# Altium footprint library Resistor.PcbLib: 20 footprints (part 1 of 2)
Each footprint in its own frame and in the unit in brackets; x right, y up, seen from the top. Pads: shape width x height; smd on the part's side, far side on the other; paste and mask are expansions set on the pad; w line width, h text height; cw(c..) or ccw(c..) is an arc to the next point about the centre after c.
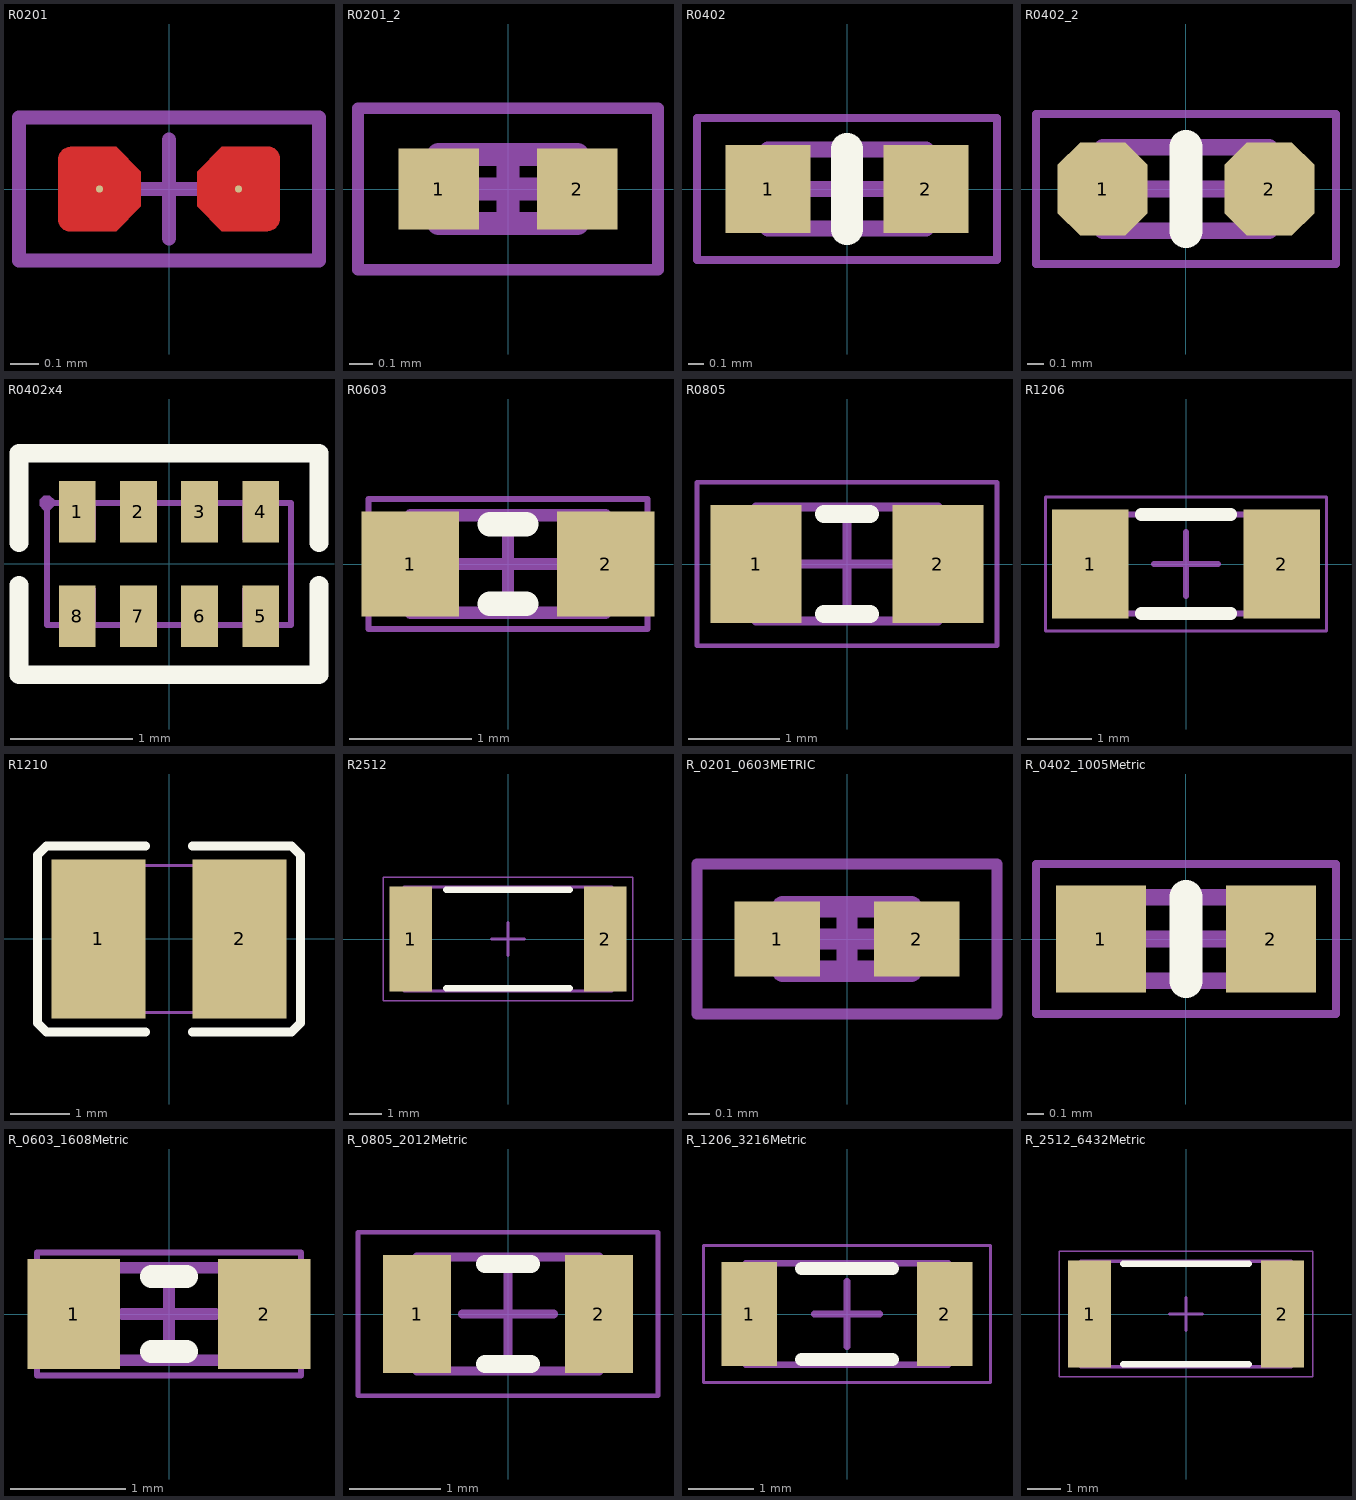
[diagram p0: the footprints below, top view; thin cyan lines are the x and y axes]

## R0201 [mil] "Chip Resistor, 2-Leads, Body 0.60x0.30mm, IPC Medium Density"
height 9.06
pads (2):
  round 1 smd paste-19.68 mask+0: 1(-9.73,0)
  round 1 smd paste+0 mask+0: 2(9.73,0)
Top Layer:
  region: 9.85,-5.91 13.85,-5.91 14.2,-5.86 14.81,-5.53 15.27,-5.01 15.52,-4.35 15.52,-4 15.52,4.5 15.47,4.8 15.17,5.32 14.71,5.7 14.15,5.91 13.85,5.91 9.85,5.91 7.4,5.91 3.94,2.45 3.94,-2.45 7.4,-5.91
  region: -9.85,5.91 -13.85,5.91 -14.2,5.86 -14.81,5.53 -15.27,5.01 -15.52,4.35 -15.52,4 -15.52,-4.5 -15.47,-4.8 -15.17,-5.32 -14.71,-5.7 -14.15,-5.91 -13.85,-5.91 -9.85,-5.91 -7.4,-5.91 -3.94,-2.45 -3.94,2.45 -7.4,5.91
Top Paste:
  region: -9.85,5.91 -13.85,5.91 -14.2,5.86 -14.81,5.53 -15.27,5.01 -15.52,4.35 -15.52,4 -15.52,-4.5 -15.47,-4.8 -15.17,-5.32 -14.71,-5.7 -14.15,-5.91 -13.85,-5.91 -9.85,-5.91 -7.4,-5.91 -3.94,-2.45 -3.94,2.45 -7.4,5.91
  region: 9.85,-5.91 13.85,-5.91 14.2,-5.86 14.81,-5.53 15.27,-5.01 15.52,-4.35 15.52,-4 15.52,4.5 15.47,4.8 15.17,5.32 14.71,5.7 14.15,5.91 13.85,5.91 9.85,5.91 7.4,5.91 3.94,2.45 3.94,-2.45 7.4,-5.91
  region: 9.85,-5.91 13.85,-5.91 14.2,-5.86 14.81,-5.53 15.27,-5.01 15.52,-4.35 15.52,-4 15.52,4.5 15.47,4.8 15.17,5.32 14.71,5.7 14.15,5.91 13.85,5.91 9.85,5.91 7.4,5.91 3.94,2.45 3.94,-2.45 7.4,-5.91
  region: -9.85,5.91 -13.85,5.91 -14.2,5.86 -14.81,5.53 -15.27,5.01 -15.52,4.35 -15.52,4 -15.52,-4.5 -15.47,-4.8 -15.17,-5.32 -14.71,-5.7 -14.15,-5.91 -13.85,-5.91 -9.85,-5.91 -7.4,-5.91 -3.94,-2.45 -3.94,2.45 -7.4,5.91
Top Solder:
  region: -9.85,5.91 -13.85,5.91 -14.2,5.86 -14.81,5.53 -15.27,5.01 -15.52,4.35 -15.52,4 -15.52,-4.5 -15.47,-4.8 -15.17,-5.32 -14.71,-5.7 -14.15,-5.91 -13.85,-5.91 -9.85,-5.91 -7.4,-5.91 -3.94,-2.45 -3.94,2.45 -7.4,5.91
  region: -9.85,5.91 -13.85,5.91 -14.2,5.86 -14.81,5.53 -15.27,5.01 -15.52,4.35 -15.52,4 -15.52,-4.5 -15.47,-4.8 -15.17,-5.32 -14.71,-5.7 -14.15,-5.91 -13.85,-5.91 -9.85,-5.91 -7.4,-5.91 -3.94,-2.45 -3.94,2.45 -7.4,5.91
  region: 9.85,-5.91 13.85,-5.91 14.2,-5.86 14.81,-5.53 15.27,-5.01 15.52,-4.35 15.52,-4 15.52,4.5 15.47,4.8 15.17,5.32 14.71,5.7 14.15,5.91 13.85,5.91 9.85,5.91 7.4,5.91 3.94,2.45 3.94,-2.45 7.4,-5.91
  region: 9.85,-5.91 13.85,-5.91 14.2,-5.86 14.81,-5.53 15.27,-5.01 15.52,-4.35 15.52,-4 15.52,4.5 15.47,4.8 15.17,5.32 14.71,5.7 14.15,5.91 13.85,5.91 9.85,5.91 7.4,5.91 3.94,2.45 3.94,-2.45 7.4,-5.91
Mechanical 15:
  lines w1.97: -21,-10 -21,10 21,10 21,-10 -21,-10
  lines w2: -6.89,0 6.89,0 ; 0,-6.89 0,6.89
3D body "RESC0603X02N.step": height 9.06, standoff 0, extent -11.81,-5.91 11.81,5.91

## R0201_2 [mm] "Chip Resistor, 2-Leads, Body 0.60x0.30mm, IPC Medium Density"
height 0.23
pads (2):
  rect 0.35x0.35 smd: 1(-0.3,0) 2(0.3,0)
Mechanical 13:
  lines w0.1: -0.3,-0.15 0.3,-0.15 0.3,0.15 -0.3,0.15 -0.3,-0.15
Mechanical 15:
  lines w0.05: -0.65,-0.35 0.65,-0.35 0.65,0.35 -0.65,0.35 -0.65,-0.35
  lines w0.1: -0.15,0 0.15,0 ; 0,-0.15 0,0.15
3D body "RESC0603X02N.step": height 0.23, standoff 0, extent -0.3,-0.15 0.3,0.15

## R0402 [mm] "Chip Resistor, 2-Leads, Body 1.00x0.50mm, IPC Medium Density"
height 0.5
pads (2):
  rect 0.54x0.56 smd: 1(-0.5,0) 2(0.5,0)
Top Overlay:
  lines w0.2: 0,-0.254 0,0.254
Mechanical 13:
  lines w0.1: -0.5,-0.25 0.5,-0.25 0.5,0.25 -0.5,0.25 -0.5,-0.25
Mechanical 15:
  lines w0.05: -0.95,-0.45 0.95,-0.45 0.95,0.45 -0.95,0.45 -0.95,-0.45
  lines w0.1: -0.25,0 0.25,0 ; 0,-0.25 0,0.25
3D body: height 0.33, standoff 0, extent 0.3,-0.25 0.5,0.25
3D body: height 0.33, standoff 0, extent -0.5,-0.25 -0.3,0.25
3D body: height 0.32, standoff 0, extent -0.3,-0.25 0.3,0.25

## R0402_2 [mm] "Chip Resistor, 2-Leads, Body 1.00x0.50mm, IPC Medium Density"
height 0.5
pads (2):
  oct 0.54x0.56 smd mask+0.051: 1(-0.5,0) 2(0.5,0)
Top Overlay:
  lines w0.2: 0,-0.254 0,0.254
Mechanical 13:
  lines w0.1: -0.5,-0.25 -0.5,0.25 0.5,0.25 0.5,-0.25 -0.5,-0.25
Mechanical 15:
  lines w0.05: -0.9,-0.45 -0.9,0.45 0.9,0.45 0.9,-0.45 -0.9,-0.45
  lines w0.1: -0.25,0 0.25,0 ; 0,-0.25 0,0.25
3D body: height 0.32, standoff 0, extent -0.3,-0.25 0.3,0.25
3D body: height 0.33, standoff 0, extent -0.5,-0.25 -0.3,0.25
3D body: height 0.33, standoff 0, extent 0.3,-0.25 0.5,0.25

## R0402x4 [mm] "Chip Array, ConvexS, 8-Leads, Pitch 0.50mm,  Body 2.00x1.00mm,  IPC High Density"
height 0.35
pads (8):
  rect 0.3x0.505 smd: 1(-0.75,0.427) 2(-0.25,0.427) 3(0.25,0.427) 4(0.75,0.427) 5(0.75,-0.427) 6(0.25,-0.427) 7(-0.25,-0.427) 8(-0.75,-0.427)
Top Overlay:
  lines w0.152: -1.229,-0.175 -1.229,-0.909 1.229,-0.909 1.229,-0.175 ; -1.229,0.175 -1.229,0.909 1.229,0.909 1.229,0.175
Mechanical 15:
  region: -0.94,0.5 -0.94,0.525 -0.975,0.56 -1.025,0.56 -1.06,0.525 -1.06,0.5 -1.06,0.475 -1.025,0.44 -0.975,0.44 -0.94,0.475 -0.94,0.5
  region: -0.9,0.5 -0.9,0.2 -0.6,0.2 -0.6,0.5
  region: -0.4,0.5 -0.4,0.2 -0.1,0.2 -0.1,0.5
  region: 0.1,0.5 0.1,0.2 0.4,0.2 0.4,0.5
  region: 0.6,0.5 0.6,0.2 0.9,0.2 0.9,0.5
  region: -0.9,-0.5 -0.9,-0.2 -0.6,-0.2 -0.6,-0.5
  region: -0.4,-0.5 -0.4,-0.2 -0.1,-0.2 -0.1,-0.5
  region: 0.1,-0.5 0.1,-0.2 0.4,-0.2 0.4,-0.5
  region: 0.6,-0.5 0.6,-0.2 0.9,-0.2 0.9,-0.5
  lines w0.051: -1,-0.5 -1,0.5 1,0.5 1,-0.5 -1,-0.5
3D body "CAC-50P200X100-8L.step": height 0.35, standoff 0, extent -1,-0.55 1,0.55

## R0603 [mm] "Chip Resistor, 2-Leads, Body 1.60x0.80mm, IPC Medium Density"
height 0.45
pads (2):
  rect 0.8x0.86 smd: 1(-0.8,0) 2(0.8,0)
Top Overlay:
  lines w0.2: -0.15,-0.325 0.15,-0.325 ; -0.15,0.325 0.15,0.325
Mechanical 13:
  lines w0.1: -0.8,-0.4 -0.8,0.4 0.8,0.4 0.8,-0.4 -0.8,-0.4
Mechanical 15:
  lines w0.05: -1.143,-0.533 -1.143,0.533 1.143,0.533 1.143,-0.533 -1.143,-0.533
  lines w0.1: -0.4,0 0.4,0 ; 0,-0.4 0,0.4
3D body: height 0.45, standoff 0, extent -0.55,-0.4 0.55,0.4
3D body: height 0.45, standoff 0, extent -0.8,-0.4 -0.55,0.4
3D body: height 0.45, standoff 0, extent 0.55,-0.4 0.8,0.4

## R0805 [mm] "Chip Resistor, 2-Leads, Body 2.00x1.25mm, IPC Medium Density"
height 0.5
pads (2):
  rect 1x1.3 smd: 1(-1,0) 2(1,0)
Top Overlay:
  lines w0.2: -0.25,-0.55 0.25,-0.55 ; -0.25,0.55 0.25,0.55
Mechanical 13:
  lines w0.1: -1,-0.625 -1,0.625 1,0.625 1,-0.625 -1,-0.625
Mechanical 15:
  lines w0.05: -1.65,-0.9 -1.65,0.9 1.65,0.9 1.65,-0.9 -1.65,-0.9
  lines w0.1: -0.5,0 0.5,0 ; 0,-0.5 0,0.5
3D body "RESC2012X05N.step": height 0.5, standoff 0, extent -1,-0.625 1,0.625

## R1206 [mm] "Chip Resistor, 2-Leads, Body 3.10x1.55mm, IPC Medium Density"
height 0.55
pads (2):
  rect 1.2x1.7 smd: 1(-1.5,0) 2(1.5,0)
Top Overlay:
  lines w0.2: -0.7,-0.775 0.7,-0.775 ; -0.7,0.775 0.7,0.775
Mechanical 13:
  lines w0.1: -1.55,-0.775 -1.55,0.775 1.55,0.775 1.55,-0.775 -1.55,-0.775
Mechanical 15:
  lines w0.05: -2.2,-1.05 -2.2,1.05 2.2,1.05 2.2,-1.05 -2.2,-1.05
  lines w0.1: -0.5,0 0.5,0 ; 0,-0.5 0,0.5
3D body "RESC3116X06N.step": height 0.55, standoff 0, extent -1.55,-0.775 1.55,0.775

## R1210 [mm]
pads (2):
  rect 1.6x2.7 smd: 1(-1.2,0) 2(1.2,0)
Top Overlay:
  lines w0.152: -0.4,-1.579 -2.086,-1.579 -2.239,-1.426 -2.239,1.426 -2.086,1.579 -0.4,1.579 ; 0.4,-1.579 2.086,-1.579 2.239,-1.426 2.239,1.426 2.086,1.579 0.4,1.579
Mechanical 15:
  region: 0.5,1.25 1.6,1.25 1.6,-1.25 0.5,-1.25
  region: -1.6,1.25 -0.5,1.25 -0.5,-1.25 -1.6,-1.25
  region: -1.54,-1.25 -1.54,-1.225 -1.575,-1.19 -1.625,-1.19 -1.66,-1.225 -1.66,-1.25 -1.66,-1.275 -1.625,-1.31 -1.575,-1.31 -1.54,-1.275 -1.54,-1.25
  lines w0.051: -1.6,-1.25 -1.6,1.25 1.6,1.25 1.6,-1.25 -1.6,-1.25
3D body "2.step": height 0.55, standoff 0, extent -1.55,-1.3 1.55,1.301

## R2512 [mm] "Chip Resistor, 2-Leads, Body 6.40x3.20mm, IPC Medium Density"
height 0.6
pads (2):
  rect 1.3x3.25 smd: 1(-3,0) 2(3,0)
Top Overlay:
  lines w0.2: -1.9,-1.525 1.9,-1.525 ; -1.9,1.525 1.9,1.525
Mechanical 13:
  lines w0.1: -3.2,-1.6 3.2,-1.6 3.2,1.6 -3.2,1.6 -3.2,-1.6
Mechanical 15:
  lines w0.05: -3.85,-1.9 3.85,-1.9 3.85,1.9 -3.85,1.9 -3.85,-1.9
  lines w0.1: -0.5,0 0.5,0 ; 0,-0.5 0,0.5
3D body "RESC6432X06N.step": height 0.6, standoff 0, extent -3.2,-1.6 3.2,1.6

## R_0201_0603METRIC [mm] "Chip Resistor, 2-Leads, Body 0.60x0.30mm, IPC Medium Density"
height 0.23
pads (2):
  rect 0.4x0.35 smd: 1(-0.325,0) 2(0.325,0)
Mechanical 13:
  lines w0.1: -0.3,-0.15 -0.3,0.15 0.3,0.15 0.3,-0.15 -0.3,-0.15
Mechanical 15:
  lines w0.05: -0.7,-0.35 -0.7,0.35 0.7,0.35 0.7,-0.35 -0.7,-0.35
  lines w0.1: -0.15,0 0.15,0 ; 0,-0.15 0,0.15
3D body "RESC0603X02N.step": height 0.23, standoff 0, extent -0.3,-0.15 0.3,0.15

## R_0402_1005Metric [mm] "Chip Resistor, 2-Leads, Body 1.00x0.50mm, IPC Medium Density"
height 0.5
pads (2):
  rect 0.54x0.64 smd: 1(-0.51,0) 2(0.51,0)
Top Overlay:
  lines w0.2: 0,-0.254 0,0.254
Mechanical 13:
  lines w0.1: -0.5,-0.25 0.5,-0.25 0.5,0.25 -0.5,0.25 -0.5,-0.25
Mechanical 15:
  lines w0.05: -0.9,-0.45 0.9,-0.45 0.9,0.45 -0.9,0.45 -0.9,-0.45
  lines w0.1: -0.25,0 0.25,0 ; 0,-0.25 0,0.25
3D body: height 0.33, standoff 0, extent 0.3,-0.25 0.5,0.25
3D body: height 0.33, standoff 0, extent -0.5,-0.25 -0.3,0.25
3D body: height 0.32, standoff 0, extent -0.3,-0.25 0.3,0.25

## R_0603_1608Metric [mm] "Chip Resistor, 2-Leads, Body 1.60x0.80mm, IPC Medium Density"
height 0.45
pads (2):
  rect 0.8x0.95 smd: 1(-0.825,0) 2(0.825,0)
Top Overlay:
  lines w0.2: -0.15,-0.325 0.15,-0.325 ; -0.15,0.325 0.15,0.325
Mechanical 13:
  lines w0.1: -0.8,-0.4 0.8,-0.4 0.8,0.4 -0.8,0.4 -0.8,-0.4
Mechanical 15:
  lines w0.05: -1.143,-0.533 1.143,-0.533 1.143,0.533 -1.143,0.533 -1.143,-0.533
  lines w0.1: -0.4,0 0.4,0 ; 0,-0.4 0,0.4
3D body: height 0.45, standoff 0, extent 0.55,-0.4 0.8,0.4
3D body: height 0.45, standoff 0, extent -0.8,-0.4 -0.55,0.4
3D body: height 0.45, standoff 0, extent -0.55,-0.4 0.55,0.4

## R_0805_2012Metric [mm] "Chip Resistor, 2-Leads, Body 2.00x1.25mm, IPC Medium Density"
height 0.5
pads (2):
  rect 0.75x1.3 smd: 1(-1,0) 2(1,0)
Top Overlay:
  lines w0.2: -0.25,-0.55 0.25,-0.55 ; -0.25,0.55 0.25,0.55
Mechanical 13:
  lines w0.1: -1,-0.625 -1,0.625 1,0.625 1,-0.625 -1,-0.625
Mechanical 15:
  lines w0.05: -1.65,-0.9 -1.65,0.9 1.65,0.9 1.65,-0.9 -1.65,-0.9
  lines w0.1: -0.5,0 0.5,0 ; 0,-0.5 0,0.5
3D body "RESC2012X05N.step": height 0.5, standoff 0, extent -1,-0.625 1,0.625

## R_1206_3216Metric [mm] "Chip Resistor, 2-Leads, Body 3.10x1.55mm, IPC Medium Density"
height 0.55
pads (2):
  rect 0.85x1.6 smd: 1(-1.5,0) 2(1.5,0)
Top Overlay:
  lines w0.2: -0.7,-0.7 0.7,-0.7 ; -0.7,0.7 0.7,0.7
Mechanical 13:
  lines w0.1: -1.55,-0.775 -1.55,0.775 1.55,0.775 1.55,-0.775 -1.55,-0.775
Mechanical 15:
  lines w0.05: -2.2,-1.05 -2.2,1.05 2.2,1.05 2.2,-1.05 -2.2,-1.05
  lines w0.1: -0.5,0 0.5,0 ; 0,-0.5 0,0.5
3D body "RESC3116X06N.step": height 0.55, standoff 0, extent -1.55,-0.775 1.55,0.775

## R_2512_6432Metric [mm] "Chip Resistor, 2-Leads, Body 6.40x3.20mm, IPC Medium Density"
height 0.6
pads (2):
  rect 1.3x3.25 smd: 1(-2.925,0) 2(2.925,0)
Top Overlay:
  lines w0.2: -1.9,-1.525 1.9,-1.525 ; -1.9,1.525 1.9,1.525
Mechanical 13:
  lines w0.1: -3.2,-1.6 3.2,-1.6 3.2,1.6 -3.2,1.6 -3.2,-1.6
Mechanical 15:
  lines w0.05: -3.85,-1.9 3.85,-1.9 3.85,1.9 -3.85,1.9 -3.85,-1.9
  lines w0.1: -0.5,0 0.5,0 ; 0,-0.5 0,0.5
3D body "RESC6432X06N.step": height 0.6, standoff 0, extent -3.2,-1.6 3.2,1.6